# EAGLE library part LCD1202 (library lcd1202)
1.3" b/w graphics display 96x68 pixel. From Nokia 1202 cell phone
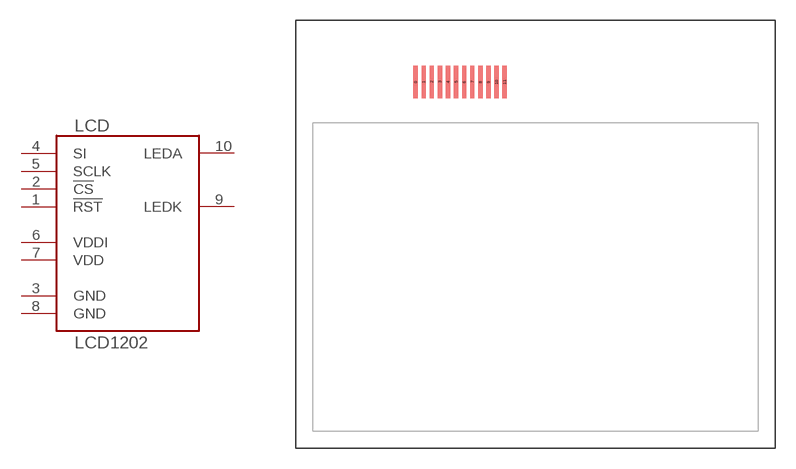
[diagram p0: symbol with the pads of NOKIA1202LCD; footprint NOKIA1202LCD]

Designator prefix LCD

## LCD1202  [NOKIA1202LCD]
1  !RST  in
2  !CS  in
3  GND  pwr
4  SI  in
5  SCLK  in
6  VDDI  pwr
7  VDD  pwr
8  GND  pwr
9  LEDK  pas
10  LEDA  pas

## Footprint NOKIA1202LCD (pad centres in mm)
smd 0.32 x 2.4: 0 -8.89,14.478; 1 -8.29,14.478; 2 -7.69,14.478; 3 -7.09,14.478; 4 -6.49,14.478; 5 -5.89,14.478; 6 -5.29,14.478; 7 -4.69,14.478; 8 -4.09,14.478; 9 -3.49,14.478; 10 -2.89,14.478; 11 -2.29,14.478